# Altium footprint library Header_Wurth_61300711121_7POS.PcbLib: 1 footprints
Each footprint in its own frame and in the unit in brackets; x right, y up, seen from the top. Pads: shape width x height; smd on the part's side, far side on the other; paste and mask are expansions set on the pad; w line width, h text height; cw(c..) or ccw(c..) is an arc to the next point about the centre after c.
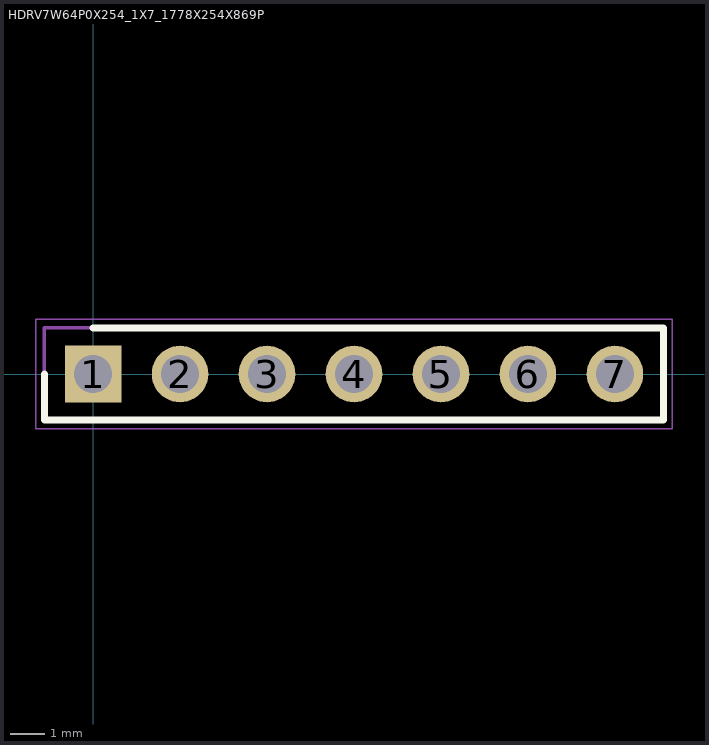
[diagram p0: the footprint, top view; thin cyan lines are the x and y axes]

## HDRV7W64P0X254_1X7_1778X254X869P [mm]
pads (7):
  rect 1.65x1.65 hole 1.1: 1(0,0)
  round 1.65 hole 1.1: 2(2.54,0) 3(5.08,0) 4(7.62,0) 5(10.16,0) 6(12.7,0) 7(15.24,0)
Top Overlay:
  lines w0.2: -1.42,0 -1.42,-1.345 16.66,-1.345 16.66,1.345 0,1.345
Mechanical 13:
  lines w0.1: -1.42,-1.345 16.66,-1.345 16.66,1.345 -1.42,1.345 -1.42,-1.345
Mechanical 15:
  lines w0.05: -1.67,-1.595 16.91,-1.595 16.91,1.595 -1.67,1.595 -1.67,-1.595
3D body "61300711121.stp": height 8.69, standoff -3.2, extent -1.27,-1.27 16.51,1.27